# EAGLE library part HY931147C (library BSB-LAN)
HANRUN HY931147C RJ45 w/ POE Ethernet Jack with magnetics and POE rectifiers. Manufacturer HANRUN(Zhongshan HanRun Elec) MFR.Part # HY931147C
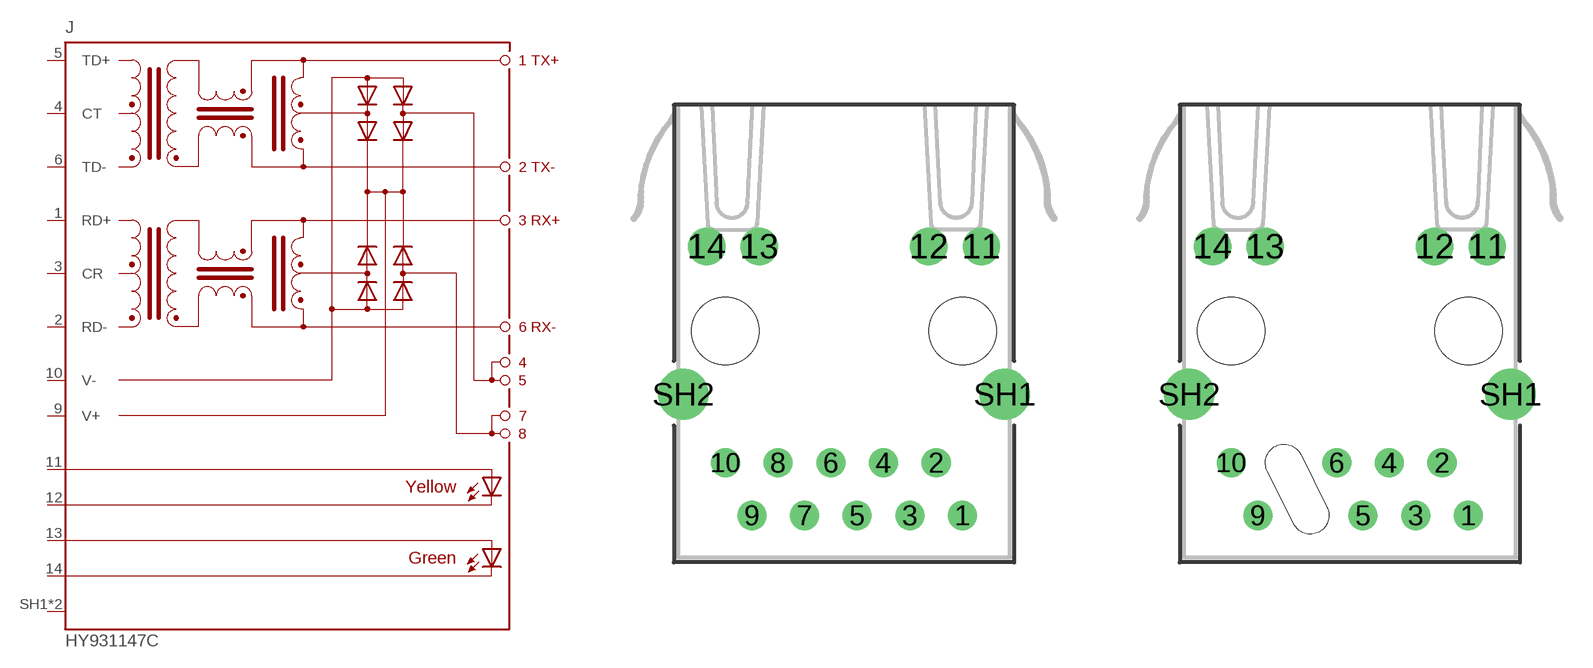
[diagram p5: symbol with the pads of HY931147C; footprints HY931147C, HY931147C-SLOT]

Designator prefix J

## HY931147C (JLC_ROT: 270; JLC_Y: -2.42; LCSC_PART: C91754)  [HY931147C]
1  RD+  pas
2  RD-  pas
3  CR  pas
4  CT  pas
5  TD+  pas
6  TD-  pas
9  V+  out
10  V-  out
11  YA  pas
12  YK  pas
13  GA  pas
14  GK  pas
SH1  SLD  pas
SH2  SLD  pas

## HY931147C-SLOT (JLC_ROT: 270; JLC_Y: -2.42; LCSC_PART: C91754)  [HY931147C-SLOT]
Pads as for HY931147C

## Footprint HY931147C (pad centres in mm)
drill 0.89 pad 1.4: 1 5.715,-8.89; 2 4.445,-6.35; 3 3.175,-8.89; 4 1.905,-6.35; 5 0.635,-8.89; 6 -0.635,-6.35; 7 -1.905,-8.89; 8 -3.175,-6.35; 9 -4.445,-8.89; 10 -5.715,-6.35
drill 1.1 pad 1.8: 11 6.625,4.08; 12 4.085,4.08; 13 -4.085,4.08; 14 -6.625,4.08
drill 1.63 pad 2.3: SH1 7.745,-3.05; SH2 -7.745,-3.05
hole 3.25 at -5.715,0
hole 3.25 at 5.715,0

## Footprint HY931147C-SLOT (pad centres in mm)
drill 0.89 pad 1.4: 1 5.715,-8.89; 2 4.445,-6.35; 3 3.175,-8.89; 4 1.905,-6.35; 5 0.635,-8.89; 6 -0.635,-6.35; 9 -4.445,-8.89; 10 -5.715,-6.35
drill 1.1 pad 1.8: 11 6.625,4.08; 12 4.085,4.08; 13 -4.085,4.08; 14 -6.625,4.08
drill 1.63 pad 2.3: SH1 7.745,-3.05; SH2 -7.745,-3.05
hole 3.25 at -5.715,0
hole 3.25 at 5.715,0